# Altium schematic symbol library Persephone.SchLib: 19 symbols
Pins are listed as number, name and electrical type; pins without a type are passive.

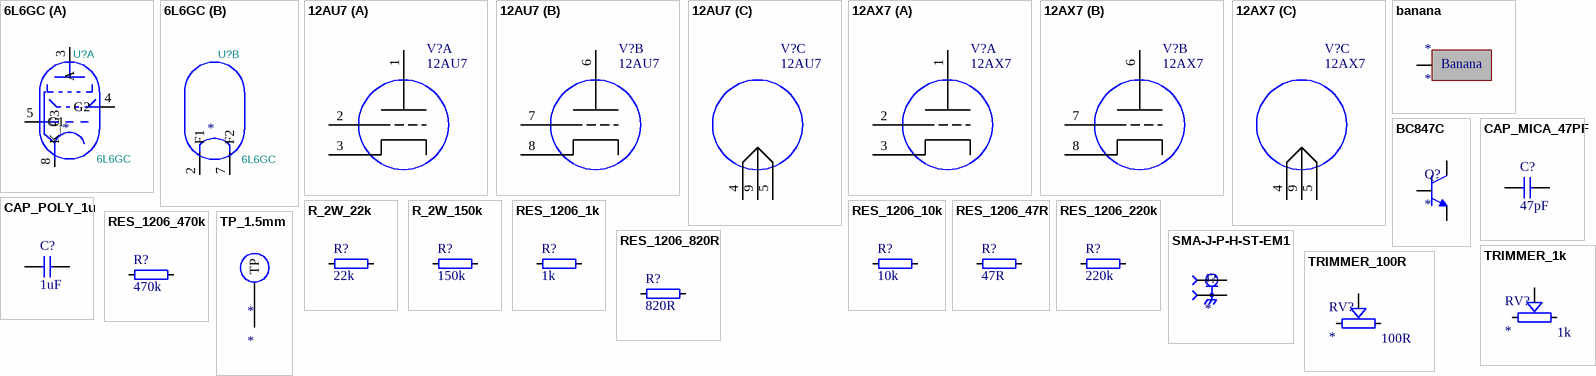
[diagram p0: symbols 6L6GC to TRIMMER_100R]

## 6L6GC
designator U?  value 6L6GC
Footprint: Valve:Valve_Noval_P
footprint VALVE-OCTAL
part A pins: 3 A, 4 G2, 5 G1, 8 K_G3
part B pins: 2 F1, 7 F2

## 12AU7
designator V?
TUNGSOL 12AU7 NEW PRD PREAMP TB; MF: RCA; MP: 12AX7; SnapEDA_Link: https://www.snapeda.com/parts/12AX7/RCA/view-part/?ref=snap; Package: None; Check_prices: https://www.snapeda.com/parts/12AX7/RCA/view-part/?ref=eda; Value: *
footprint NOVAL_PCB
part A pins: 1, 2, 3
part B pins: 6, 7, 8
part C pins: 4, 5, 9

## 12AX7
designator V?
TUNGSOL 12AX7 NEW PRD PREAMP TB; MF: RCA; SnapEDA_Link: https://www.snapeda.com/parts/12AX7/RCA/view-part/?ref=snap; Package: None; MP: 12AX7; Check_prices: https://www.snapeda.com/parts/12AX7/RCA/view-part/?ref=eda; Value: *
footprint NOVAL_PCB
part A pins: 1, 2, 3
part B pins: 6, 7, 8
part C pins: 4, 5, 9

## banana
designator *
footprint banana
pins: 1
text: Banana

## BC847C
designator Q?
Bipolar (BJT) Transistor NPN 45 V 100 mA 300MHz 250 mW Surface Mount SOT-23-3 (TO-236); MF: Diotec Semiconductor; MP: BC847C; Price: None; SnapEDA_Link: https://www.snapeda.com/parts/BC847C/Diotec/view-part/?ref=snap; Purchase-URL: https://pricing.snapeda.com/search/part/BC847C/?ref=eda; Availability: In Stock; Package: SOT-23-3 Diotec; Check_prices: https://www.snapeda.com/parts/BC847C/Diotec/view-part/?ref=eda; Value: *
footprint TRANS_BC847C
pins: 1 B, 2 E, 3 C

## CAP_MICA_47PF
designator C?, comment 47pF
Capacitor, Silver Mica; Part Number: CMICA_47PF; Value: 47pF
footprint CAP_MICA
pins: 1, 2

## CAP_POLY_1u
designator C?, comment 1uF
Capacitor, Silver Mica; Part Number: CMICA_47PF; Value: 1uF
footprint CAP_POLI_103
pins: 1, 2

## R_2W_22k
designator R?, comment 22k
Resistor, 2W; Part Number: R2W; ComponentLink1URL: N.A.; ComponentLink1Description: Datasheet; ComponentLink2URL: N.A.; ComponentLink2Description: Supplier link; Author: colombari; Value: 22k
footprint RES_2W
pins: 1, 2

## R_2W_150k
designator R?, comment 150k
Resistor, 2W; Part Number: R2W; ComponentLink1URL: N.A.; ComponentLink1Description: Datasheet; ComponentLink2URL: N.A.; ComponentLink2Description: Supplier link; Author: colombari; Value: 150k
footprint RES_2W
pins: 1, 2

## RES_1206_1k
designator R?, comment 1k
Resistor, ±1%, 0.05W; Part Number: R0201-470; Manufacturer: N.A.; Note: Chip Res 1%; Pad Count: 2; Manufacturer Part Number: N.A.; ComponentLink1URL: N.A.; ComponentLink1Description: Datasheet; ComponentLink2URL: N.A.; ComponentLink2Description: Supplier link; HelpURL: N.A.; Footprint Doc: 0201; LatestRevisionDate: 2014-11-13; Published: 2014-11-13; Value: 1k; Artikkelnr Noca: N.A.; Part number IPS: N.A.; Supplier 1: N.A.; Supplier Part Number 1: N.A.; Supplier 2: N.A.; Supplier Part Number 2: N.A.; Component Class: Resistors; PartId: 100100037; Author: rsk; Part number Norautron: N.A.
footprint RES_ERJU08J154V
pins: 1, 2

## RES_1206_10k
designator R?, comment 10k
Resistor, ±1%, 0.05W; Part Number: R0201-470; Manufacturer: N.A.; Note: Chip Res 1%; Pad Count: 2; Manufacturer Part Number: N.A.; ComponentLink1URL: N.A.; ComponentLink1Description: Datasheet; ComponentLink2URL: N.A.; ComponentLink2Description: Supplier link; HelpURL: N.A.; Footprint Doc: 0201; LatestRevisionDate: 2014-11-13; Published: 2014-11-13; Value: 10k; Artikkelnr Noca: N.A.; Part number IPS: N.A.; Supplier 1: N.A.; Supplier Part Number 1: N.A.; Supplier 2: N.A.; Supplier Part Number 2: N.A.; Component Class: Resistors; PartId: 100100037; Author: rsk; Part number Norautron: N.A.
footprint RES_ERJU08J154V
pins: 1, 2

## RES_1206_47R
designator R?, comment 47R
Resistor, ±1%, 0.05W; Part Number: R0201-470; Manufacturer: N.A.; Note: Chip Res 1%; Pad Count: 2; Manufacturer Part Number: N.A.; ComponentLink1URL: N.A.; ComponentLink1Description: Datasheet; ComponentLink2URL: N.A.; ComponentLink2Description: Supplier link; HelpURL: N.A.; Footprint Doc: 0201; LatestRevisionDate: 2014-11-13; Published: 2014-11-13; Value: 47R; Artikkelnr Noca: N.A.; Part number IPS: N.A.; Supplier 1: N.A.; Supplier Part Number 1: N.A.; Supplier 2: N.A.; Supplier Part Number 2: N.A.; Component Class: Resistors; PartId: 100100037; Author: rsk; Part number Norautron: N.A.
footprint RES_ERJU08J154V
pins: 1, 2

## RES_1206_220k
designator R?, comment 220k
Resistor, ±1%, 0.05W; Part Number: R0201-470; Manufacturer: N.A.; Note: Chip Res 1%; Pad Count: 2; Manufacturer Part Number: N.A.; ComponentLink1URL: N.A.; ComponentLink1Description: Datasheet; ComponentLink2URL: N.A.; ComponentLink2Description: Supplier link; HelpURL: N.A.; Footprint Doc: 0201; LatestRevisionDate: 2014-11-13; Published: 2014-11-13; Value: 220k; Artikkelnr Noca: N.A.; Part number IPS: N.A.; Supplier 1: N.A.; Supplier Part Number 1: N.A.; Supplier 2: N.A.; Supplier Part Number 2: N.A.; Component Class: Resistors; PartId: 100100037; Author: rsk; Part number Norautron: N.A.
footprint RES_ERJU08J154V
pins: 1, 2

## RES_1206_470k
designator R?, comment 470k
Resistor, ±1%, 0.05W; Part Number: R0201-470; Manufacturer: N.A.; Note: Chip Res 1%; Pad Count: 2; Manufacturer Part Number: N.A.; ComponentLink1URL: N.A.; ComponentLink1Description: Datasheet; ComponentLink2URL: N.A.; ComponentLink2Description: Supplier link; HelpURL: N.A.; Footprint Doc: 0201; LatestRevisionDate: 2014-11-13; Published: 2014-11-13; Value: 470k; Artikkelnr Noca: N.A.; Part number IPS: N.A.; Supplier 1: N.A.; Supplier Part Number 1: N.A.; Supplier 2: N.A.; Supplier Part Number 2: N.A.; Component Class: Resistors; PartId: 100100037; Author: rsk; Part number Norautron: N.A.
footprint RES_ERJU08J154V
pins: 1, 2

## RES_1206_820R
designator R?, comment 820R
Resistor, ±1%, 0.05W; Part Number: R0201-470; Manufacturer: N.A.; Note: Chip Res 1%; Pad Count: 2; Manufacturer Part Number: N.A.; ComponentLink1URL: N.A.; ComponentLink1Description: Datasheet; ComponentLink2URL: N.A.; ComponentLink2Description: Supplier link; HelpURL: N.A.; Footprint Doc: 0201; LatestRevisionDate: 2014-11-13; Published: 2014-11-13; Value: 820R; Artikkelnr Noca: N.A.; Part number IPS: N.A.; Supplier 1: N.A.; Supplier Part Number 1: N.A.; Supplier 2: N.A.; Supplier Part Number 2: N.A.; Component Class: Resistors; PartId: 100100037; Author: rsk; Part number Norautron: N.A.
footprint RES_ERJU08J154V
pins: 1, 2

## SMA-J-P-H-ST-EM1
designator J?
SMA Connector Jack, Female Socket 50Ohm Board Edge, End Launch Solder; MF: Samtec; MP: SMA-J-P-H-ST-EM1; Package: None; Price: None; Value: *; Availability: Unavailable
footprint SAMTEC_SMA-J-P-H-ST-EM1
pins: 1, 2_1 2, 2_2 2, 3_1 2, 3_2 2

## TP_1.5mm
designator *
pins: 0 TP

## TRIMMER_1k
designator RV?  value 1k
TRIMMER; MF: Bourns Electronics; MP: PV36W204C01B00.; SnapEDA_Link: https://www.snapeda.com/parts/PV36W204C01B00./Bourns/view-part/?ref=snap; Package: None; Check_prices: https://www.snapeda.com/parts/PV36W204C01B00./Bourns/view-part/?ref=eda
footprint TRIM_PV36W204C01B00 - duplicate
pins: 1, 2, 3

## TRIMMER_100R
designator RV?  value 100R
TRIMMER; MF: Bourns Electronics; MP: PV36W204C01B00.; SnapEDA_Link: https://www.snapeda.com/parts/PV36W204C01B00./Bourns/view-part/?ref=snap; Package: None; Check_prices: https://www.snapeda.com/parts/PV36W204C01B00./Bourns/view-part/?ref=eda
footprint TRIM_PV36W204C01B00 - duplicate
pins: 1, 2, 3